# EAGLE library part 615108150221R (library Eagle_WR-MJ (rev23b))
WR-MJ Modular Jack THR Horizontal Mid-Mount Shielded Tab Down General Information Operating Temperature:-40 up to +85 °C Compliance:Lead free / RoHS Electrical Properties Working Voltage: 125 V (AC) Contact Resistance:20mΩ RISO:1000 MΩ Material Properties Insulator MateriaL:LCP Insulator Flammability Rating:UL94 V-0 Color:Black Contact Material:Copper Alloy Contact Plating: Gold Contact Type:Stamped Shielding Materia:Brass Shielding Plating:Nickel Packaging Properties Packaging:Tape and Reel <https://www.we-online.com/catalog/media/o135233v209%20Family_WR-MJ_615108150221R.jpg> Details see: https://www.we-online.com/catalog/en/MJ_THR_HORIZONTAL_MID_MOUNT_SHIELDED_TAB_DOWN/ Updated by Ella Wu 2021-12-08 2021 (C) Würth Elektronik
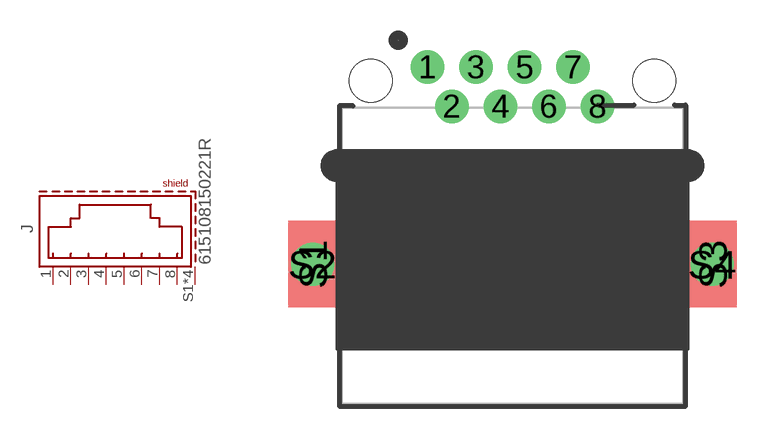
[diagram p54: symbol with the pads of 615108150221R; footprint 615108150221R]

Designator prefix J

## 615108150221R (DATASHEET-URL: https://www.we-online.com/redexpert/spec/615108150221R?ae; MOUNT: THR; PART-NUMBER: 615108150221R; TYPE: Right Angle; VALUE: 615108150221R; XPXC: 8P8C)  [615108150221R]
1  8  pas
2  7  pas
3  6  pas
4  5  pas
5  4  pas
6  3  pas
7  2  pas
8  1  pas
S1  SHIELD  pas
S2  SHIELD  pas
S3  SHIELD  pas
S4  SHIELD  pas

## Footprint 615108150221R (pad centres in mm)
WR-MJ Modular Jack THR Horizontal Mid-Mount Shielded Tab Down
drill 0.9: 1 -3.57,6.95; 2 -2.55,5.3; 3 -1.53,6.95; 4 -0.51,5.3; 5 0.51,6.95; 6 1.53,5.3; 7 2.55,6.95; 8 3.57,5.3
smd 2.05 x 3.63: S1 -8.4,-1.33; S3 8.4,-1.33
drill 1.2: S2 -8.4,-1.33; S4 8.4,-1.33
hole 1.8 at 5.95,6.37
hole 1.8 at -5.95,6.37